# Altium schematic symbol library NV08C-CSM.SchLib: 1 symbol
Pins are listed as number, name and electrical type; pins without a type are passive.

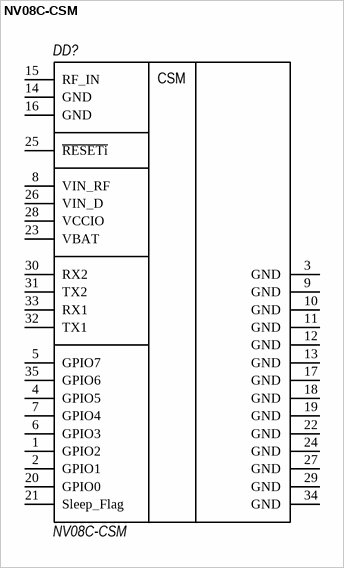
[diagram p0: symbol NV08C-CSM]

## NV08C-CSM
designator DD?
Value: *
footprint NV08C-CSM
pins: 1 GPIO2, 2 GPIO1, 3 GND, 4 GPIO5, 5 GPIO7, 6 GPIO3, 7 GPIO4, 8 VIN_RF, 9 GND, 10 GND, 11 GND, 12 GND, 13 GND, 14 GND, 15 RF_IN, 16 GND, 17 GND, 18 GND, 19 GND, 20 GPIO0, 21 Sleep_Flag, 22 GND, 23 VBAT, 24 GND, 25 ~{RESETi}, 26 VIN_D, 27 GND, 28 VCCIO, 29 GND, 30 RX2, 31 TX2, 32 TX1, 33 RX1, 34 GND, 35 GPIO6
text: CSM